# EAGLE library part STEP-STICK (library ADA2)
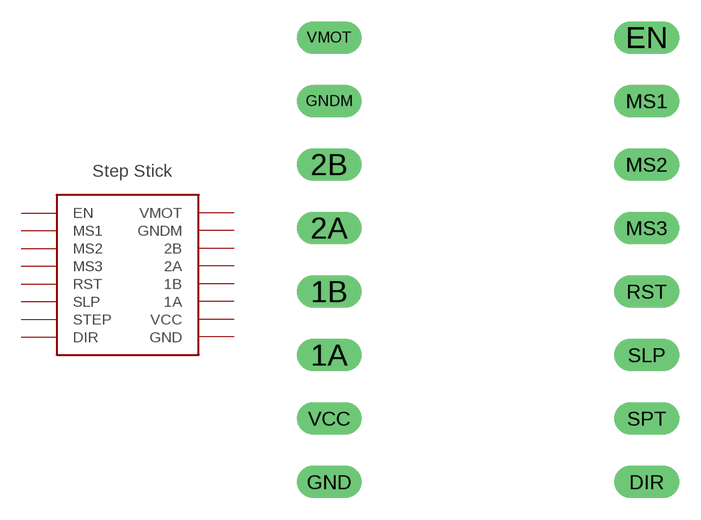
[diagram p4: symbol with the pads of STEP-STICK; footprint STEP-STICK]

Designator prefix -

## STEP-STICK  [STEP-STICK]
1A  1A
1B  1B
2A  2A
2B  2B
DIR  DIR
EN  EN
GND  GND
GNDM  GNDM
MS1  MS1
MS2  MS2
MS3  MS3
RST  RST
SLP  SLP
SPT  STEP
VCC  VCC
VMOT  VMOT

## Footprint STEP-STICK (pad centres in mm)
drill 0.8 long: 1A -8.89,-7.62; 1B -8.89,-5.08; 2A -8.89,-2.54; 2B -8.89,0; DIR 3.81,-12.7; EN 3.81,5.08; GND -8.89,-12.7; GNDM -8.89,2.54; MS1 3.81,2.54; MS2 3.81,0; MS3 3.81,-2.54; RST 3.81,-5.08; SLP 3.81,-7.62; SPT 3.81,-10.16; VCC -8.89,-10.16; VMOT -8.89,5.08